# Altium schematic symbol library INA186A3QDB.Schlib: 1 symbol
Pins are listed as number, name and electrical type; pins without a type are passive.

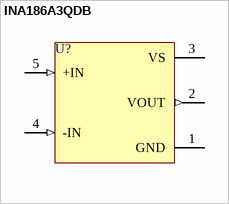
[diagram p0: symbol INA186A3QDB]

## INA186A3QDB
designator U?
Current-Sense Amplifiers
pins: 1 GND (power), 2 VOUT (out), 3 VS (power), 4 -IN (in), 5 +IN (in)